# Altium schematic symbol library B2P-VHLFSN.SchLib: 2 symbols
Pins are listed as number, name and electrical type; pins without a type are passive.

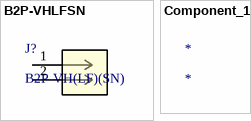
[diagram p0: symbols B2P-VHLFSN to Component_1]

## B2P-VHLFSN
designator J?, comment B2P-VH(LF)(SN)
No Description Available; Manufacturer_Name: JST; Copyright: Copyright (C) 2025 Ultra Librarian. All rights reserved.; Manufacturer_Part_Number: B2P-VH(LF)(SN); Digi-Key_Part_Number_1: 455-1639-ND; RefDes: RefDes; Type: Type
footprint CONN_B2P-VH_JST
pins: 1, 2

## Component_1
designator *